# EAGLE library part CLP6C-FKB (library insole)
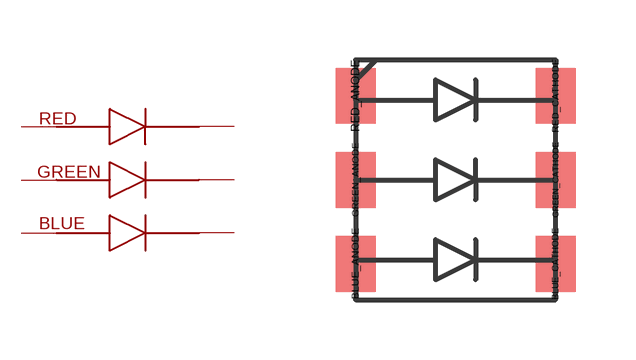
[diagram p0: symbol with the pads of CREE_PLCC6_3-IN-1_SMD_LED_CLP6C-FKB; footprint CREE_PLCC6_3-IN-1_SMD_LED_CLP6C-FKB]

Designator prefix D

## CLP6C-FKB  [CREE_PLCC6_3-IN-1_SMD_LED_CLP6C-FKB]
BLUE_ANODE  BLUE_ANODE
BLUE_CATHODE  BLUE_CATHODE
GREEN_ANODE  GREEN_ANODE
GREEN_CATHODE  GREEN_CATHODE
RED_ANODE  RED_ANODE
RED_CATHODE  RED_CATHODE

## Footprint CREE_PLCC6_3-IN-1_SMD_LED_CLP6C-FKB (pad centres in mm)
smd 1 x 1.4: BLUE_ANODE -2.5,-2.1; BLUE_CATHODE 2.5,-2.1; GREEN_ANODE -2.5,0; GREEN_CATHODE 2.5,0; RED_ANODE -2.5,2.1; RED_CATHODE 2.5,2.1